# Altium schematic symbol library SCH - OPAMP - SN10501DBV.SCHLIB: 1 symbol
Pins are listed as number, name and electrical type; pins without a type are passive.

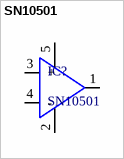
[diagram p0: symbol SN10501]

## SN10501
designator IC?
Dual Op Amp
pins: 1, 2, 3 +, 4 -, 5